# Altium schematic symbol library ESP32-S3FH4R2.SchLib: 1 symbol
Pins are listed as number, name and electrical type; pins without a type are passive.

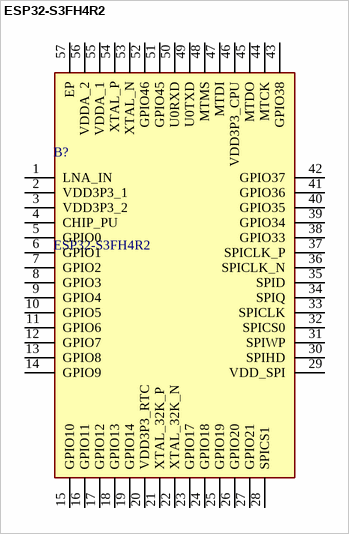
[diagram p0: symbol ESP32-S3FH4R2]

## ESP32-S3FH4R2
designator B?
RF System on a Chip - SoC SMD IC ESP32-S3FH4R2, dual-core MCU, Wi-Fi 2.4G & BLE 5.0 combo, 4 MB flash and 2 MB PSRAM inside, QFN 56-pin, 7*7 mm; Manufacturer_Name: Espressif Systems; Geometry.Height: 0.9mm; Mouser Part Number: 356-ESP32-S3FH4R2; Mouser Price/Stock: https://www.mouser.co.uk/ProductDetail/Espressif-Systems/ESP32-S3FH4R2?qs=tlsG%2FOw5FFjPrwkmZSBQNA%3D%3D; Manufacturer_Part_Number: ESP32-S3FH4R2; Datasheet Link: *
footprint QFN40P700X700X90-57N-D
pins: 1 LNA_IN, 2 VDD3P3_1, 3 VDD3P3_2, 4 CHIP_PU, 5 GPIO0, 6 GPIO1, 7 GPIO2, 8 GPIO3, 9 GPIO4, 10 GPIO5, 11 GPIO6, 12 GPIO7, 13 GPIO8, 14 GPIO9, 15 GPIO10, 16 GPIO11, 17 GPIO12, 18 GPIO13, 19 GPIO14, 20 VDD3P3_RTC, 21 XTAL_32K_P, 22 XTAL_32K_N, 23 GPIO17, 24 GPIO18, 25 GPIO19, 26 GPIO20, 27 GPIO21, 28 SPICS1, 29 VDD_SPI, 30 SPIHD, 31 SPIWP, 32 SPICS0, 33 SPICLK, 34 SPIQ, 35 SPID, 36 SPICLK_N, 37 SPICLK_P, 38 GPIO33, 39 GPIO34, 40 GPIO35, 41 GPIO36, 42 GPIO37, 43 GPIO38, 44 MTCK, 45 MTDO, 46 VDD3P3_CPU, 47 MTDI, 48 MTMS, 49 U0TXD, 50 U0RXD, 51 GPIO45, 52 GPIO46, 53 XTAL_N, 54 XTAL_P, 55 VDDA_1, 56 VDDA_2, 57 EP